# Altium footprint library 晶振封装库.PcbLib: 82 footprints (part 6 of 6)
Each footprint in its own frame and in the unit in brackets; x right, y up, seen from the top. Pads: shape width x height; smd on the part's side, far side on the other; paste and mask are expansions set on the pad; w line width, h text height; cw(c..) or ccw(c..) is an arc to the next point about the centre after c.
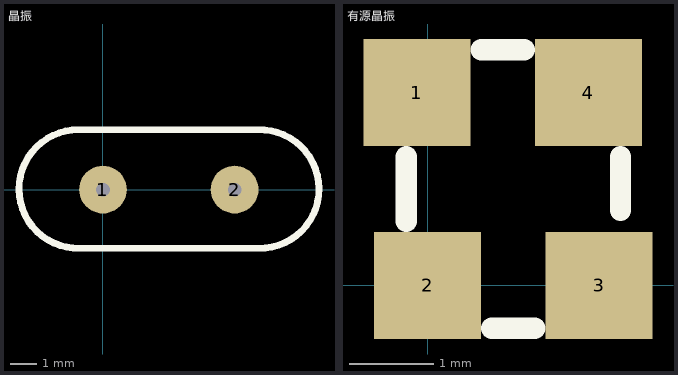
[diagram p5: the footprints below, top view; thin cyan lines are the x and y axes]

## 晶振 [mil]
pads (2):
  round 70 hole 20: 1(0,0) 2(193,0)
Top Overlay:
  lines w10: 225.27,87.73 -35.33,87.73 ccw(c-36.18,0.85) -34,-86 226.6,-86 ; 226.67,87.73 cw(c229.77,0.88) 228,-86
3D body "User Library-HC-49_LT_THT.step": height 141.73, standoff -78.35, extent -127,-91.54 319.85,91.54

## 有源晶振 [mil]
pads (4):
  rect 50x50 smd: 1(-5,90) 2(0,0) 3(80,0) 4(75,90)
Top Overlay:
  lines w10: -10,30 -10,60 ; 25,110 45,110 ; 30,-20 50,-20 ; 90,35 90,60
3D body "User Library-3225-1.STEP": height 24.02, standoff 0, extent -8.43,-17.99 90,107.99